# Altium schematic symbol library SCH - DRIVER - TI UCC5304DWVR.SCHLIB: 1 symbol
Pins are listed as number, name and electrical type; pins without a type are passive.

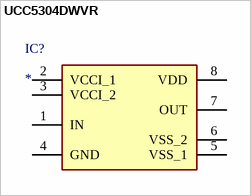
[diagram p0: symbol UCC5304DWVR]

## UCC5304DWVR
designator IC?
Integrated Circuit; Manufacturer_Name: Texas Instruments; Manufacturer_Part_Number: UCC5304DWVR; Description: Gate Drivers 4-A source; Datasheet Link: https://www.ti.com/lit/gpn/UCC5304; Height: 2.8mm; Mouser Part Number: 595-UCC5304DWVR; Mouser Price/Stock: https://www.mouser.co.uk/ProductDetail/Texas-Instruments/UCC5304DWVR?qs=vmHwEFxEFR%252BJ%252B3hHq6l1mw%3D%3D; Arrow Part Number: UCC5304DWVR; Arrow Price/Stock: https://www.arrow.com/en/products/ucc5304dwvr/texas-instruments?region=nac
pins: 1 IN, 2 VCCI_1, 3 VCCI_2, 4 GND, 5 VSS_1, 6 VSS_2, 7 OUT, 8 VDD